# Altium schematic symbol library RC0603FR-0730K1L.SchLib: 1 symbol
Pins are listed as number, name and electrical type; pins without a type are passive.

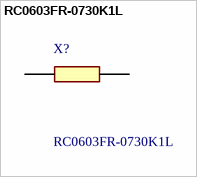
[diagram p0: symbol RC0603FR-0730K1L]

## RC0603FR-0730K1L
designator X?
RESISTOR, 0603 30.1K Ohms +/-1% 1/10 W; Manufacturer_Name: Yageo Group; Geometry.Height: 0.55mm; Mouser Part Number: 603-RC0603FR-0730K1L; Mouser Price/Stock: https://www.mouser.co.uk/ProductDetail/YAGEO/RC0603FR-0730K1L?qs=diQw95jMAeNqRPOmLH1lOA%3D%3D; Manufacturer_Part_Number: RC0603FR-0730K1L; Datasheet Link: http://www.yageo.com/documents/recent/PYu-RC0603_51_RoHS_L_v5.pdf
footprint RESC1608X55N
pins: 1, 2